# Altium integrated library AD Operational Amplifier.IntLib: 1114 symbols (part 2 of 13)
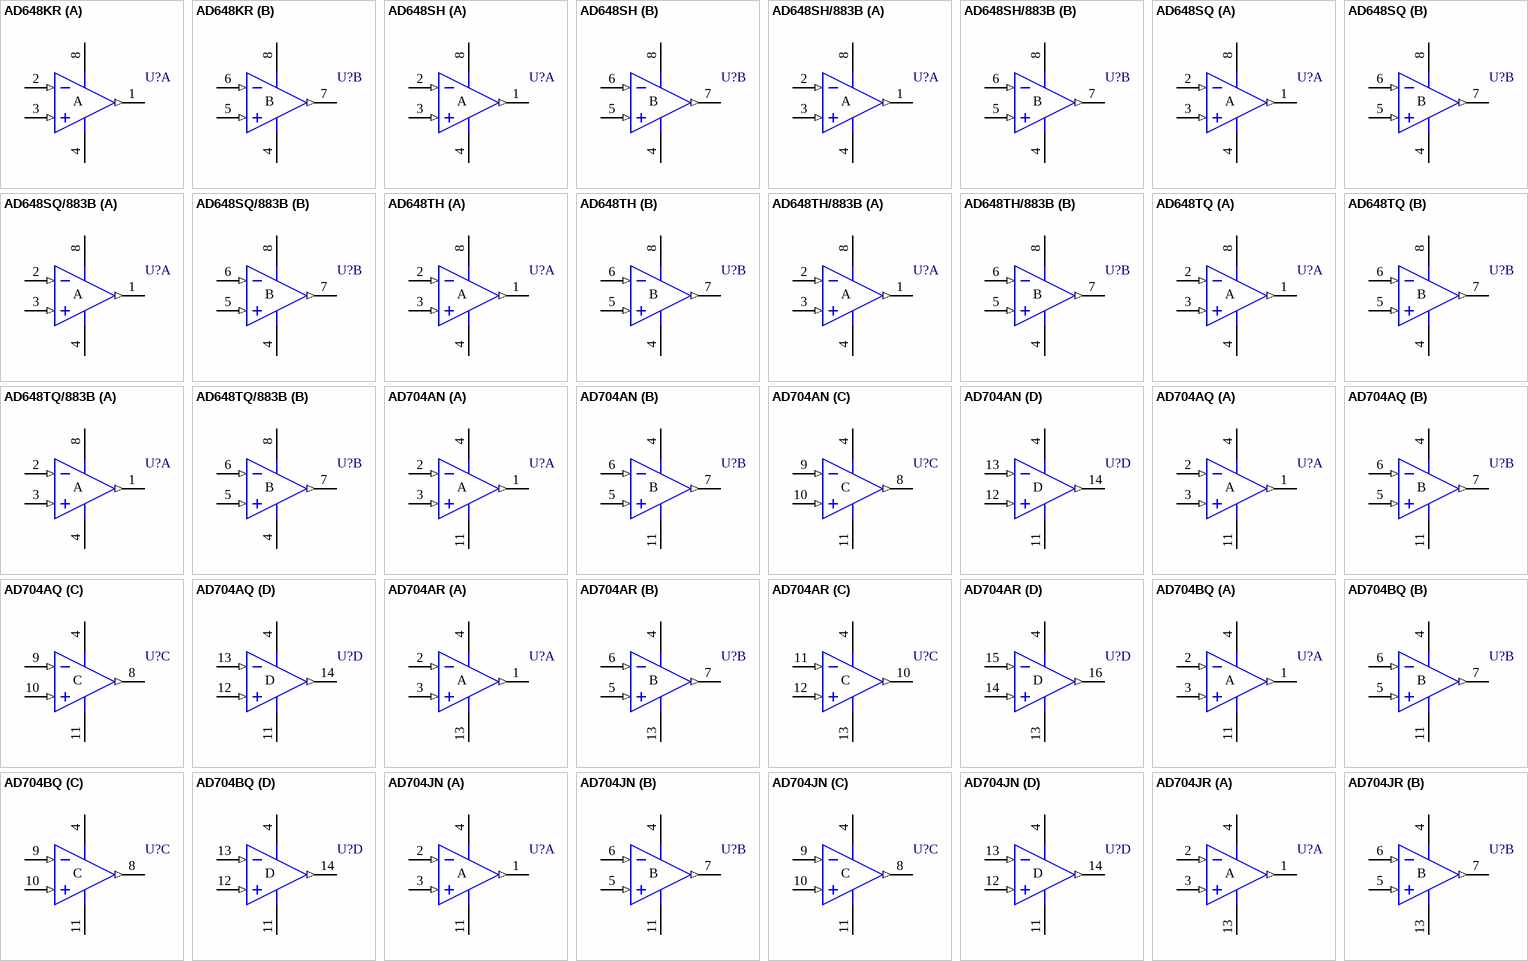
[diagram p47: symbols AD648KR to AD704JR]

## AD648SH
designator U?
Dual Precision, Low-Power BiFET Operational Amplifier; Package Information: Latest Revision: 1990; Note: Pin 4 connected to case.; Published: 8-Jun-2000; Revision: 17-Jul-2002: Re-released for DXP Platform.; Datasheet: Amplifier Reference Manual (1992); Package Reference: H-08A; Publisher: Altium Limited
footprint H-08A (Can; 8 Leads; Pin Circle Dia. 5.08 mm; Lead Dia. 0.53 mm (max))
pins on every part: 4 V- (power), 8 V+ (power)
part A pins: 1 OUT (out), 2 IN- (in), 3 IN+ (in)
part B pins: 5 IN+ (in), 6 IN- (in), 7 OUT (out)
part A text: A
part B text: B

## AD648SH/883B
designator U?
Dual Precision, Low-Power BiFET Op Amp; Package Information: Latest Revision: 1990; Note: Pin 4 connected to case.; Published: 8-Jun-2000; Revision: 17-Jul-2002: Re-released for DXP Platform.; Datasheet: Amplifier Reference Manual (1992); Package Reference: H-08A; Publisher: Altium Limited
footprint H-08A (Can; 8 Leads; Pin Circle Dia. 5.08 mm; Lead Dia. 0.53 mm (max))
pins on every part: 4 V- (power), 8 V+ (power)
part A pins: 1 OUT (out), 2 IN- (in), 3 IN+ (in)
part B pins: 5 IN+ (in), 6 IN- (in), 7 OUT (out)
part A text: A
part B text: B

## AD648SQ
designator U?
Dual Precision, Low-Power BiFET Operational Amplifier; Package Information: Latest Revision: 1998; Published: 8-Jun-2000; Revision: 17-Jul-2002: Re-released for DXP Platform.; Datasheet: Latest Revision: REV. C; Package Reference: Q-8; Publisher: Altium Limited
footprint Q-8 (DIP; 8 Leads; Row Spacing 7.62 mm; Pitch 2.54 mm)
pins on every part: 4 V- (power), 8 V+ (power)
part A pins: 1 OUT (out), 2 IN- (in), 3 IN+ (in)
part B pins: 5 IN+ (in), 6 IN- (in), 7 OUT (out)
part A text: A
part B text: B

## AD648SQ/883B
designator U?
Dual Precision, Low-Power BiFET Operational Amplifier; Package Information: Latest Revision: 1998; Published: 8-Jun-2000; Revision: 17-Jul-2002: Re-released for DXP Platform.; Datasheet: Latest Revision: REV. C; Package Reference: Q-8; Publisher: Altium Limited
footprint Q-8 (DIP; 8 Leads; Row Spacing 7.62 mm; Pitch 2.54 mm)
pins on every part: 4 V- (power), 8 V+ (power)
part A pins: 1 OUT (out), 2 IN- (in), 3 IN+ (in)
part B pins: 5 IN+ (in), 6 IN- (in), 7 OUT (out)
part A text: A
part B text: B

## AD648TH
designator U?
Dual Precision, Low-Power BiFET Operational Amplifier; Package Information: Latest Revision: 1990; Note: Pin 4 connected to case.; Published: 8-Jun-2000; Revision: 17-Jul-2002: Re-released for DXP Platform.; Datasheet: Amplifier Reference Manual (1992); Package Reference: H-08A; Publisher: Altium Limited
footprint H-08A (Can; 8 Leads; Pin Circle Dia. 5.08 mm; Lead Dia. 0.53 mm (max))
pins on every part: 4 V- (power), 8 V+ (power)
part A pins: 1 OUT (out), 2 IN- (in), 3 IN+ (in)
part B pins: 5 IN+ (in), 6 IN- (in), 7 OUT (out)
part A text: A
part B text: B

## AD648TH/883B
designator U?
Dual Precision, Low-Power BiFET Operational Amplifier; Package Information: Latest Revision: 1993; Note: Pin 4 connected to case.; Published: 8-Jun-2000; Revision: 17-Jul-2002: Re-released for DXP Platform.; Datasheet: Latest Revision: REV. C; Package Reference: H-08A_D; Publisher: Altium Limited
footprint H-08A_D (Can; 8 Leads; Pin Circle Dia. 5.08 mm; Lead Dia. 0.48 mm (max))
pins on every part: 4 V- (power), 8 V+ (power)
part A pins: 1 OUT (out), 2 IN- (in), 3 IN+ (in)
part B pins: 5 IN+ (in), 6 IN- (in), 7 OUT (out)
part A text: A
part B text: B

## AD648TQ
designator U?
Dual Precision, Low-Power BiFET Operational Amplifier; Package Information: Latest Revision: 1998; Published: 8-Jun-2000; Revision: 17-Jul-2002: Re-released for DXP Platform.; Datasheet: Amplifier Reference Manual (1992); Package Reference: Q-8; Publisher: Altium Limited
footprint Q-8 (DIP; 8 Leads; Row Spacing 7.62 mm; Pitch 2.54 mm)
pins on every part: 4 V- (power), 8 V+ (power)
part A pins: 1 OUT (out), 2 IN- (in), 3 IN+ (in)
part B pins: 5 IN+ (in), 6 IN- (in), 7 OUT (out)
part A text: A
part B text: B

## AD648TQ/883B
designator U?
Dual Precision, Low-Power BiFET Operational Amplifier; Package Information: Latest Revision: 1998; Published: 8-Jun-2000; Revision: 17-Jul-2002: Re-released for DXP Platform.; Datasheet: Latest Revision: REV. C; Package Reference: Q-8; Publisher: Altium Limited
footprint Q-8 (DIP; 8 Leads; Row Spacing 7.62 mm; Pitch 2.54 mm)
pins on every part: 4 V- (power), 8 V+ (power)
part A pins: 1 OUT (out), 2 IN- (in), 3 IN+ (in)
part B pins: 5 IN+ (in), 6 IN- (in), 7 OUT (out)
part A text: A
part B text: B

## AD704AN
designator U?
Quad Picoampere Input Current Bipolar Operational Amplifier; Revision 1: 10-Jul-2000: SIM Model Added.; Revision 2: 17-Jul-2002: Re-released for DXP Platform.; Package Information: Latest Revision: revB; Published: 8-Jun-2000; Datasheet: Latest Revision: REV. A; Package Reference: N-14_A; Publisher: Altium Limited
footprint N-14_A (DIP; 14 Leads; Row Spacing 7.62 mm; Pitch 2.54 mm)
simulation model AD704A (SUBCKT)
pins on every part: 4 V+ (power), 11 V- (power)
part A pins: 1 OUT (out), 2 IN- (in), 3 IN+ (in)
part B pins: 5 IN+ (in), 6 IN- (in), 7 OUT (out)
part C pins: 8 OUT (out), 9 IN- (in), 10 IN+ (in)
part D pins: 12 IN+ (in), 13 IN- (in), 14 OUT (out)
part A text: A
part B text: B
part C text: C
part D text: D

## AD704AQ
designator U?
Quad Picoampere Input Current Bipolar Operational Amplifier; Revision 1: 10-Jul-2000: SIM Model Added.; Revision 2: 17-Jul-2002: Re-released for DXP Platform.; Package Information: Latest Revision: revB; Published: 8-Jun-2000; Datasheet: Latest Revision: REV. A; Package Reference: Q-14; Publisher: Altium Limited
footprint Q-14 (DIP; 14 Leads; Row Spacing 7.62 mm; Pitch 2.54 mm)
simulation model AD704A (SUBCKT)
pins on every part: 4 V+ (power), 11 V- (power)
part A pins: 1 OUT (out), 2 IN- (in), 3 IN+ (in)
part B pins: 5 IN+ (in), 6 IN- (in), 7 OUT (out)
part C pins: 8 OUT (out), 9 IN- (in), 10 IN+ (in)
part D pins: 12 IN+ (in), 13 IN- (in), 14 OUT (out)
part A text: A
part B text: B
part C text: C
part D text: D

## AD704AR
designator U?
Quad Picoampere Input Current Bipolar Operational Amplifier; Revision 1: 10-Jul-2000: SIM Model Added.; Revision 2: 17-Jul-2002: Re-released for DXP Platform.; Revision 3: 21-May-2003: Pin 10 electrical type changed to 'Output'.; Package Information: Latest Revision: revA 1996; Note: Pins 8 and 9 are not connected; Code - JEDEC: MS-013-AA; Code - IPC: SO16W; Published: 8-Jun-2000; Datasheet: Latest Revision: REV. A; Package Reference: R-16; Publisher: Altium Limited
footprint R-16 (Small Outline; 16 Leads; Body Width 7.5 mm; Pitch 1.27 mm)
simulation model AD704A (SUBCKT)
pins on every part: 4 V+ (power), 13 V- (power)
part A pins: 1 OUT (out), 2 IN- (in), 3 IN+ (in)
part B pins: 5 IN+ (in), 6 IN- (in), 7 OUT (out)
part C pins: 10 OUT (out), 11 IN- (in), 12 IN+ (in)
part D pins: 14 IN+ (in), 15 IN- (in), 16 OUT (out)
part A text: A
part B text: B
part C text: C
part D text: D

## AD704BQ
designator U?
Quad Picoampere Input Current Bipolar Operational Amplifier; Revision 1: 10-Jul-2000: SIM Model Added.; Revision 2: 17-Jul-2002: Re-released for DXP Platform.; Package Information: Latest Revision: revB; Published: 8-Jun-2000; Datasheet: Latest Revision: REV. A; Package Reference: Q-14; Publisher: Altium Limited
footprint Q-14 (DIP; 14 Leads; Row Spacing 7.62 mm; Pitch 2.54 mm)
simulation model AD704B (SUBCKT)
pins on every part: 4 V+ (power), 11 V- (power)
part A pins: 1 OUT (out), 2 IN- (in), 3 IN+ (in)
part B pins: 5 IN+ (in), 6 IN- (in), 7 OUT (out)
part C pins: 8 OUT (out), 9 IN- (in), 10 IN+ (in)
part D pins: 12 IN+ (in), 13 IN- (in), 14 OUT (out)
part A text: A
part B text: B
part C text: C
part D text: D

## AD704JN
designator U?
Quad Picoampere Input Current Bipolar Operational Amplifier; Revision 1: 10-Jul-2000: SIM Model Added.; Revision 2: 17-Jul-2002: Re-released for DXP Platform.; Package Information: Latest Revision: revB; Published: 8-Jun-2000; Datasheet: Latest Revision: REV. A; Package Reference: N-14_A; Publisher: Altium Limited
footprint N-14_A (DIP; 14 Leads; Row Spacing 7.62 mm; Pitch 2.54 mm)
simulation model AD704J (SUBCKT)
pins on every part: 4 V+ (power), 11 V- (power)
part A pins: 1 OUT (out), 2 IN- (in), 3 IN+ (in)
part B pins: 5 IN+ (in), 6 IN- (in), 7 OUT (out)
part C pins: 8 OUT (out), 9 IN- (in), 10 IN+ (in)
part D pins: 12 IN+ (in), 13 IN- (in), 14 OUT (out)
part A text: A
part B text: B
part C text: C
part D text: D

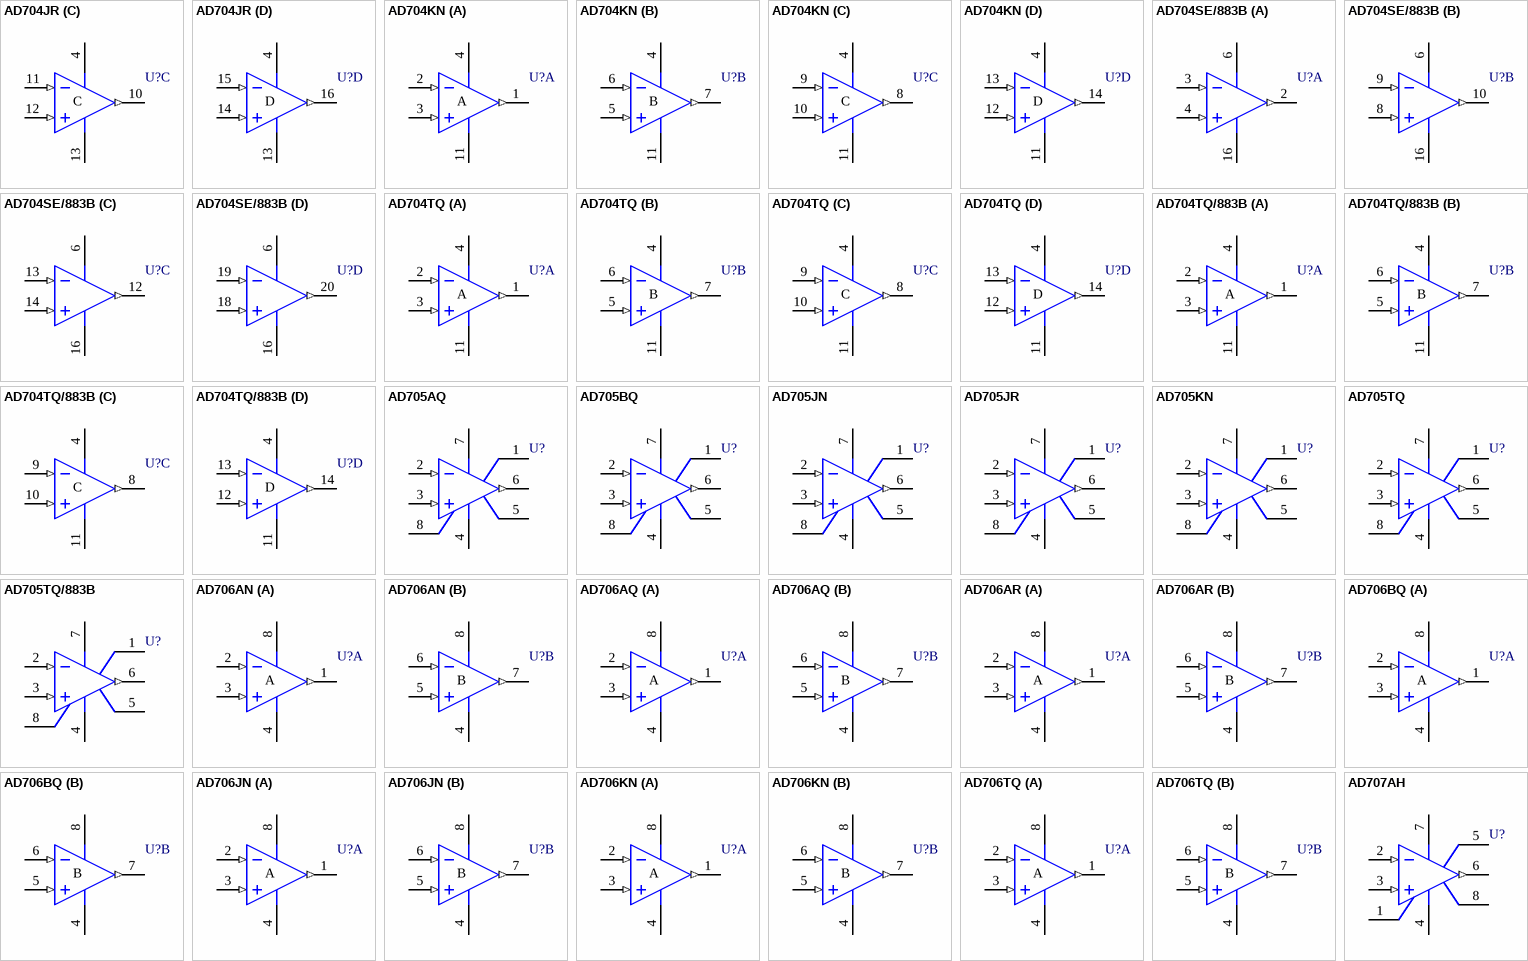
[diagram p4: symbols AD704JR to AD707AH]

## AD704JR
designator U?
Quad Picoampere Input Current Bipolar Operational Amplifier; Revision 1: 10-Jul-2000: SIM Model Added.; Revision 2: 17-Jul-2002: Re-released for DXP Platform.; Revision 3: 21-May-2003: Pin 10 electrical type changed to 'Output'.; Package Information: Latest Revision: revA 1996; Note: Pins 8 and 9 are not connected; Code - JEDEC: MS-013-AA; Code - IPC: SO16W; Published: 8-Jun-2000; Datasheet: Latest Revision: REV. A; Package Reference: R-16; Publisher: Altium Limited
footprint R-16 (Small Outline; 16 Leads; Body Width 7.5 mm; Pitch 1.27 mm)
simulation model AD704J (SUBCKT)
pins on every part: 4 V+ (power), 13 V- (power)
part A pins: 1 OUT (out), 2 IN- (in), 3 IN+ (in)
part B pins: 5 IN+ (in), 6 IN- (in), 7 OUT (out)
part C pins: 10 OUT (out), 11 IN- (in), 12 IN+ (in)
part D pins: 14 IN+ (in), 15 IN- (in), 16 OUT (out)
part A text: A
part B text: B
part C text: C
part D text: D

## AD704KN
designator U?
Quad Picoampere Input Current Bipolar Operational Amplifier; Revision 1: 10-Jul-2000: SIM Model Added.; Revision 2: 17-Jul-2002: Re-released for DXP Platform.; Package Information: Latest Revision: revB; Published: 8-Jun-2000; Datasheet: Latest Revision: REV. A; Package Reference: N-14_A; Publisher: Altium Limited
footprint N-14_A (DIP; 14 Leads; Row Spacing 7.62 mm; Pitch 2.54 mm)
simulation model AD704K (SUBCKT)
pins on every part: 4 V+ (power), 11 V- (power)
part A pins: 1 OUT (out), 2 IN- (in), 3 IN+ (in)
part B pins: 5 IN+ (in), 6 IN- (in), 7 OUT (out)
part C pins: 8 OUT (out), 9 IN- (in), 10 IN+ (in)
part D pins: 12 IN+ (in), 13 IN- (in), 14 OUT (out)
part A text: A
part B text: B
part C text: C
part D text: D

## AD704SE/883B
designator U?
Quad Picoampere Input Current Bipolar Operational Amplifier; Revision 1: 10-Jul-2000: SIM Model Added.; Revision 2: 17-Jul-2002: Re-released for DXP Platform.; Note: Pins 1, 5, 7, 11, 15 and 17 are not connected (NC) and are not drawn.; Published: 8-Jun-2000; Datasheet: Latest Revision: REV. A; Package Reference: E-20A; Publisher: Altium Limited
footprint E-20A (Leadless Chip Carrier; 20 Terminals; Body 8.9 x 8.9 mm)
simulation model AD704 (SUBCKT)
pins on every part: 6 V+ (power), 16 V- (power)
part A pins: 2 OUT (out), 3 IN- (in), 4 IN+ (in)
part B pins: 8 IN+ (in), 9 IN- (in), 10 OUT (out)
part C pins: 12 OUT (out), 13 IN- (in), 14 IN+ (in)
part D pins: 18 IN+ (in), 19 IN- (in), 20 OUT (out)

## AD704TQ
designator U?
Quad Picoampere Input Current Bipolar Operational Amplifier; Revision 1: 10-Jul-2000: SIM Model Added.; Revision 2: 17-Jul-2002: Re-released for DXP Platform.; Package Information: Latest Revision: revB; Published: 8-Jun-2000; Datasheet: Latest Revision: REV. A; Package Reference: Q-14; Publisher: Altium Limited
footprint Q-14 (DIP; 14 Leads; Row Spacing 7.62 mm; Pitch 2.54 mm)
simulation model AD704T (SUBCKT)
pins on every part: 4 V+ (power), 11 V- (power)
part A pins: 1 OUT (out), 2 IN- (in), 3 IN+ (in)
part B pins: 5 IN+ (in), 6 IN- (in), 7 OUT (out)
part C pins: 8 OUT (out), 9 IN- (in), 10 IN+ (in)
part D pins: 12 IN+ (in), 13 IN- (in), 14 OUT (out)
part A text: A
part B text: B
part C text: C
part D text: D

## AD704TQ/883B
designator U?
Quad Picoampere Input Current Bipolar Operational Amplifier; Revision 1: 10-Jul-2000: SIM Model Added.; Revision 2: 17-Jul-2002: Re-released for DXP Platform.; Package Information: Latest Revision: revB; Published: 8-Jun-2000; Datasheet: Latest Revision: REV. A; Package Reference: Q-14; Publisher: Altium Limited
footprint Q-14 (DIP; 14 Leads; Row Spacing 7.62 mm; Pitch 2.54 mm)
simulation model AD704T (SUBCKT)
pins on every part: 4 V+ (power), 11 V- (power)
part A pins: 1 OUT (out), 2 IN- (in), 3 IN+ (in)
part B pins: 5 IN+ (in), 6 IN- (in), 7 OUT (out)
part C pins: 8 OUT (out), 9 IN- (in), 10 IN+ (in)
part D pins: 12 IN+ (in), 13 IN- (in), 14 OUT (out)
part A text: A
part B text: B
part C text: C
part D text: D

## AD705AQ
designator U?
Picoampere Input Current Bipolar Operational Amplifier; Revision 1: 10-Jul-2000: SIM Model Added.; Revision 2: 17-Jul-2002: Re-released for DXP Platform.; Package Information: Latest Revision: 1998; Published: 8-Jun-2000; Datasheet: Latest Revision: REV. B; Package Reference: Q-8; Publisher: Altium Limited
footprint Q-8 (DIP; 8 Leads; Row Spacing 7.62 mm; Pitch 2.54 mm)
simulation model AD705A (SUBCKT)
pins: 1 OS NUL, 2 IN- (in), 3 IN+ (in), 4 V- (power), 5 C COMP, 6 OUT (out), 7 V+ (power), 8 OS NUL

## AD705BQ
designator U?
Picoampere Input Current Bipolar Operational Amplifier; Revision 1: 10-Jul-2000: SIM Model Added.; Revision 2: 17-Jul-2002: Re-released for DXP Platform.; Package Information: Latest Revision: 1998; Published: 8-Jun-2000; Datasheet: Latest Revision: REV. B; Package Reference: Q-8; Publisher: Altium Limited
footprint Q-8 (DIP; 8 Leads; Row Spacing 7.62 mm; Pitch 2.54 mm)
simulation model AD705B (SUBCKT)
pins: 1 OS NUL, 2 IN- (in), 3 IN+ (in), 4 V- (power), 5 C COMP, 6 OUT (out), 7 V+ (power), 8 OS NUL

## AD705JN
designator U?
Picoampere Input Current Bipolar Operational Amplifier; Revision 1: 10-Jul-2000: SIM Model Added.; Revision 2: 17-Jul-2002: Re-released for DXP Platform.; Package Information: Latest Revision: revA; Published: 8-Jun-2000; Datasheet: Latest Revision: REV. B; Package Reference: N-8; Publisher: Altium Limited
footprint N-8 (DIP; 8 Leads; Row Spacing 7.62 mm; Pitch 2.54 mm)
simulation model AD705J (SUBCKT)
pins: 1 OS NUL, 2 IN- (in), 3 IN+ (in), 4 V- (power), 5 C COMP, 6 OUT (out), 7 V+ (power), 8 OS NUL

## AD705JR
designator U?
Picoampere Input Current Bipolar Operational Amplifier; Revision 1: 10-Jul-2000: SIM Model Added.; Revision 2: 17-Jul-2002: Re-released for DXP Platform.; Package Information: Latest Revision: REV. B; Code - JEDEC: MS-012-AA; Code - IPC: SO8; Published: 8-Jun-2000; Datasheet: Latest Revision: REV. B; Package Reference: R-8; Publisher: Altium Limited
footprint R-8 (Small Outline; 8 Leads; Body Width 3.9 mm; Pitch 1.27 mm)
simulation model AD705J (SUBCKT)
pins: 1 OS NUL, 2 IN- (in), 3 IN+ (in), 4 V- (power), 5 C COMP, 6 OUT (out), 7 V+ (power), 8 OS NUL

## AD705KN
designator U?
Picoampere Input Current Bipolar Operational Amplifier; Revision 1: 10-Jul-2000: SIM Model Added.; Revision 2: 17-Jul-2002: Re-released for DXP Platform.; Package Information: Latest Revision: revA; Published: 8-Jun-2000; Datasheet: Latest Revision: REV. B; Package Reference: N-8; Publisher: Altium Limited
footprint N-8 (DIP; 8 Leads; Row Spacing 7.62 mm; Pitch 2.54 mm)
simulation model AD705K (SUBCKT)
pins: 1 OS NUL, 2 IN- (in), 3 IN+ (in), 4 V- (power), 5 C COMP, 6 OUT (out), 7 V+ (power), 8 OS NUL

## AD705TQ
designator U?
Picoampere Input Current Bipolar Operational Amplifier; Revision 1: 10-Jul-2000: SIM Model Added.; Revision 2: 17-Jul-2002: Re-released for DXP Platform.; Package Information: Latest Revision: 1998; Published: 8-Jun-2000; Datasheet: Latest Revision: REV. B; Package Reference: Q-8; Publisher: Altium Limited
footprint Q-8 (DIP; 8 Leads; Row Spacing 7.62 mm; Pitch 2.54 mm)
simulation model AD705T (SUBCKT)
pins: 1 OS NUL, 2 IN- (in), 3 IN+ (in), 4 V- (power), 5 C COMP, 6 OUT (out), 7 V+ (power), 8 OS NUL

## AD705TQ/883B
designator U?
Picoampere Input Current Bipolar Op Amp; Revision 1: 10-Jul-2000: SIM Model Added.; Revision 2: 17-Jul-2002: Re-released for DXP Platform.; Package Information: Latest Revision: 1998; Published: 8-Jun-2000; Datasheet: Latest Revision: REV. B; Package Reference: Q-8; Publisher: Altium Limited
footprint Q-8 (DIP; 8 Leads; Row Spacing 7.62 mm; Pitch 2.54 mm)
simulation model AD705T (SUBCKT)
pins: 1 OS NUL, 2 IN- (in), 3 IN+ (in), 4 V- (power), 5 C COMP, 6 OUT (out), 7 V+ (power), 8 OS NUL

## AD706AN
designator U?
Dual Picoampere Input Current Bipolar Operational Amplifier; Revision 1: 10-Jul-2000: SIM Model Added.; Revision 2: 17-Jul-2002: Re-released for DXP Platform.; Code - JEDEC: MO-001-AN; Published: 8-Jun-2000; Datasheet: Designer's Reference Manual CD (REV. C 1997); Package Reference: N-8_A; Publisher: Altium Limited
footprint N-8_A (DIP; 8 Leads; Row Spacing 7.62 mm; Pitch 2.54 mm)
simulation model AD706A (SUBCKT)
pins on every part: 4 V- (power), 8 V+ (power)
part A pins: 1 OUT (out), 2 IN- (in), 3 IN+ (in)
part B pins: 5 IN+ (in), 6 IN- (in), 7 OUT (out)
part A text: A
part B text: B

## AD706AQ
designator U?
Dual Picoampere Input Current Bipolar Operational Amplifier; Revision 1: 10-Jul-2000: SIM Model Added.; Revision 2: 17-Jul-2002: Re-released for DXP Platform.; Package Information: Latest Revision: 1998; Published: 8-Jun-2000; Datasheet: Designer's Reference Manual CD (REV. C 1997); Package Reference: Q-8; Publisher: Altium Limited
footprint Q-8 (DIP; 8 Leads; Row Spacing 7.62 mm; Pitch 2.54 mm)
simulation model AD706A (SUBCKT)
pins on every part: 4 V- (power), 8 V+ (power)
part A pins: 1 OUT (out), 2 IN- (in), 3 IN+ (in)
part B pins: 5 IN+ (in), 6 IN- (in), 7 OUT (out)
part A text: A
part B text: B

## AD706AR
designator U?
Dual Picoampere Input Current Bipolar Operational Amplifier; Revision 1: 10-Jul-2000: SIM Model Added.; Revision 2: 17-Jul-2002: Re-released for DXP Platform.; Code - JEDEC: MS-012-AA; Code - IPC: SO8; Published: 8-Jun-2000; Datasheet: Designer's Reference Manual CD (REV. C 1997); Package Reference: R-8; Publisher: Altium Limited
footprint R-8 (Small Outline; 8 Leads; Body Width 3.9 mm; Pitch 1.27 mm)
simulation model AD706A (SUBCKT)
pins on every part: 4 V- (power), 8 V+ (power)
part A pins: 1 OUT (out), 2 IN- (in), 3 IN+ (in)
part B pins: 5 IN+ (in), 6 IN- (in), 7 OUT (out)
part A text: A
part B text: B

## AD706BQ
designator U?
Dual Picoampere Input Current Bipolar Operational Amplifier; Revision 1: 10-Jul-2000: SIM Model Added.; Revision 2: 17-Jul-2002: Re-released for DXP Platform.; Package Information: Latest Revision: 1998; Published: 8-Jun-2000; Datasheet: Designer's Reference Manual CD (REV. C 1997); Package Reference: Q-8; Publisher: Altium Limited
footprint Q-8 (DIP; 8 Leads; Row Spacing 7.62 mm; Pitch 2.54 mm)
simulation model AD706B (SUBCKT)
pins on every part: 4 V- (power), 8 V+ (power)
part A pins: 1 OUT (out), 2 IN- (in), 3 IN+ (in)
part B pins: 5 IN+ (in), 6 IN- (in), 7 OUT (out)
part A text: A
part B text: B

## AD706JN
designator U?
Dual Picoampere Input Current Bipolar Operational Amplifier; Revision 1: 10-Jul-2000: SIM Model Added.; Revision 2: 17-Jul-2002: Re-released for DXP Platform.; Code - JEDEC: MO-001-AN; Published: 8-Jun-2000; Datasheet: Designer's Reference Manual CD (REV. C 1997); Package Reference: N-8_A; Publisher: Altium Limited
footprint N-8_A (DIP; 8 Leads; Row Spacing 7.62 mm; Pitch 2.54 mm)
simulation model AD706J (SUBCKT)
pins on every part: 4 V- (power), 8 V+ (power)
part A pins: 1 OUT (out), 2 IN- (in), 3 IN+ (in)
part B pins: 5 IN+ (in), 6 IN- (in), 7 OUT (out)
part A text: A
part B text: B

## AD706KN
designator U?
Dual Picoampere Input Current Bipolar Operational Amplifier; Revision 1: 10-Jul-2000: SIM Model Added.; Revision 2: 17-Jul-2002: Re-released for DXP Platform.; Code - JEDEC: MO-001-AN; Published: 8-Jun-2000; Datasheet: Designer's Reference Manual CD (REV. C 1997); Package Reference: N-8_A; Publisher: Altium Limited
footprint N-8_A (DIP; 8 Leads; Row Spacing 7.62 mm; Pitch 2.54 mm)
simulation model AD706K (SUBCKT)
pins on every part: 4 V- (power), 8 V+ (power)
part A pins: 1 OUT (out), 2 IN- (in), 3 IN+ (in)
part B pins: 5 IN+ (in), 6 IN- (in), 7 OUT (out)
part A text: A
part B text: B

## AD706TQ
designator U?
Dual Picoampere Input Current Bipolar Operational Amplifier; Revision 1: 10-Jul-2000: SIM Model Added.; Revision 2: 17-Jul-2002: Re-released for DXP Platform.; Package Information: Latest Revision: 1998; Published: 8-Jun-2000; Datasheet: Amplifier Reference Manual (1992); Package Reference: Q-8; Publisher: Altium Limited
footprint Q-8 (DIP; 8 Leads; Row Spacing 7.62 mm; Pitch 2.54 mm)
simulation model AD706T (SUBCKT)
pins on every part: 4 V- (power), 8 V+ (power)
part A pins: 1 OUT (out), 2 IN- (in), 3 IN+ (in)
part B pins: 5 IN+ (in), 6 IN- (in), 7 OUT (out)
part A text: A
part B text: B

## AD707AH
designator U?
Ultra-Low Drift Operational Amplifier; Package Information: Latest Revision: 1990; Note: Pin 4 connected to case; Pin 5 is not connected.; Published: 8-Jun-2000; Revision: 17-Jul-2002: Re-released for DXP Platform.; Datasheet: Latest Revision: REV. B 1995; Package Reference: H-08A; Publisher: Altium Limited
footprint H-08A (Can; 8 Leads; Pin Circle Dia. 5.08 mm; Lead Dia. 0.53 mm (max))
pins: 1 OS NULL, 2 IN- (in), 3 IN+ (in), 4 V- (power), 5 NC, 6 OUT (out), 7 V+ (power), 8 OS NULL

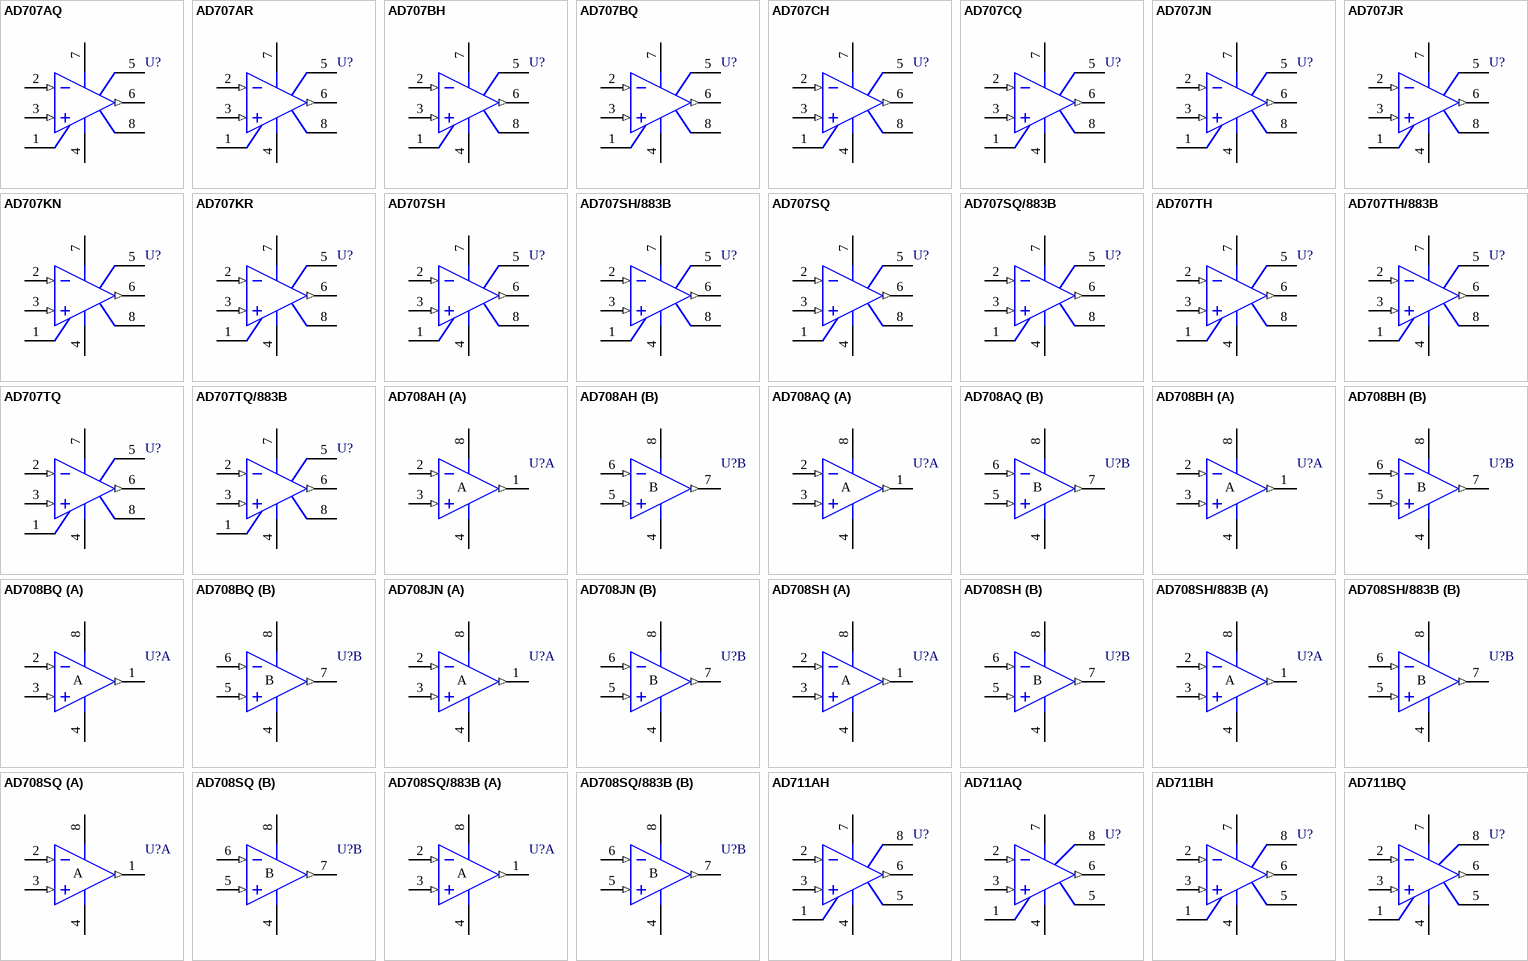
[diagram p5: symbols AD707AQ to AD711BQ]

## AD707AQ
designator U?
Ultra-Low Drift Operational Amplifier; Package Information: Latest Revision: 1998; Note: Pin 5 is not connected.; Published: 8-Jun-2000; Revision: 17-Jul-2002: Re-released for DXP Platform.; Datasheet: Latest Revision: REV. B 1995; Package Reference: Q-8; Publisher: Altium Limited
footprint Q-8 (DIP; 8 Leads; Row Spacing 7.62 mm; Pitch 2.54 mm)
pins: 1 NULL1, 2 IN- (in), 3 IN+ (in), 4 V- (power), 5 NC, 6 OUT (out), 7 V+ (power), 8 NULL2

## AD707AR
designator U?
Ultra-Low Drift Operational Amplifier; Package Information: Latest Revision: revA; Note: Pin 5 is not connected.; Code - JEDEC: MS-012-AA; Code - IPC: SO8; Published: 8-Jun-2000; Revision: 17-Jul-2002: Re-released for DXP Platform.; Datasheet: Latest Revision: REV. B 1995; Package Reference: SO-8; Publisher: Altium Limited
footprint SO-8 (Small Outline; 8 Leads; Body Width 3.9 mm; Pitch 1.27 mm)
pins: 1 NULL1, 2 IN- (in), 3 IN+ (in), 4 V- (power), 5 NC, 6 OUT (out), 7 V+ (power), 8 NULL2

## AD707BH
designator U?
Ultra-Low Drift Operational Amplifier; Package Information: Latest Revision: 1990; Note: Pin 4 connected to case; Pin 5 is not connected.; Published: 8-Jun-2000; Revision: 17-Jul-2002: Re-released for DXP Platform.; Datasheet: Amplifier Reference Manual (1992); Package Reference: H-08A; Publisher: Altium Limited
footprint H-08A (Can; 8 Leads; Pin Circle Dia. 5.08 mm; Lead Dia. 0.53 mm (max))
pins: 1 OS NULL, 2 IN- (in), 3 IN+ (in), 4 V- (power), 5 NC, 6 OUT (out), 7 V+ (power), 8 OS NULL

## AD707BQ
designator U?
Ultra-Low Drift Operational Amplifier; Package Information: Latest Revision: 1998; Note: Pin 5 is not connected.; Published: 8-Jun-2000; Revision: 17-Jul-2002: Re-released for DXP Platform.; Datasheet: Latest Revision: REV. B 1995; Package Reference: Q-8; Publisher: Altium Limited
footprint Q-8 (DIP; 8 Leads; Row Spacing 7.62 mm; Pitch 2.54 mm)
pins: 1 NULL1, 2 IN- (in), 3 IN+ (in), 4 V- (power), 5 NC, 6 OUT (out), 7 V+ (power), 8 NULL2

## AD707CH
designator U?
Ultra-Low Drift Operational Amplifier; Package Information: Latest Revision: 1990; Note: Pin 4 connected to case; Pin 5 is not connected.; Published: 8-Jun-2000; Revision: 17-Jul-2002: Re-released for DXP Platform.; Datasheet: Amplifier Reference Manual (1992); Package Reference: H-08A; Publisher: Altium Limited
footprint H-08A (Can; 8 Leads; Pin Circle Dia. 5.08 mm; Lead Dia. 0.53 mm (max))
pins: 1 OS NULL, 2 IN- (in), 3 IN+ (in), 4 V- (power), 5 NC, 6 OUT (out), 7 V+ (power), 8 OS NULL

## AD707CQ
designator U?
Ultra-Low Drift Operational Amplifier; Package Information: Latest Revision: 1998; Note: Pin 4 connected to case; Pin 5 is not connected.; Published: 8-Jun-2000; Revision: 17-Jul-2002: Re-released for DXP Platform.; Datasheet: Amplifier Reference Manual (1992); Package Reference: Q-8; Publisher: Altium Limited
footprint Q-8 (DIP; 8 Leads; Row Spacing 7.62 mm; Pitch 2.54 mm)
pins: 1 NULL1, 2 IN- (in), 3 IN+ (in), 4 V- (power), 5 NC, 6 OUT (out), 7 V+ (power), 8 NULL2

## AD707JN
designator U?
Ultra-Low Drift Operational Amplifier; Note: Pin 5 is not connected.; Code - JEDEC: MO-001-AN; Published: 8-Jun-2000; Revision: 17-Jul-2002: Re-released for DXP Platform.; Datasheet: Latest Revision: REV. B 1995; Package Reference: N-8_A; Publisher: Altium Limited
footprint N-8_A (DIP; 8 Leads; Row Spacing 7.62 mm; Pitch 2.54 mm)
pins: 1 NULL1, 2 IN- (in), 3 IN+ (in), 4 V- (power), 5 NC, 6 OUT (out), 7 V+ (power), 8 NULL2

## AD707JR
designator U?
Ultra-Low Drift Operational Amplifier; Package Information: Latest Revision: revA; Note: Pin 5 is not connected.; Code - JEDEC: MS-012-AA; Code - IPC: SO8; Published: 8-Jun-2000; Revision: 17-Jul-2002: Re-released for DXP Platform.; Datasheet: Latest Revision: REV. B 1995; Package Reference: SO-8; Publisher: Altium Limited
footprint SO-8 (Small Outline; 8 Leads; Body Width 3.9 mm; Pitch 1.27 mm)
pins: 1 NULL1, 2 IN- (in), 3 IN+ (in), 4 V- (power), 5 NC, 6 OUT (out), 7 V+ (power), 8 NULL2

## AD707KN
designator U?
Ultra-Low Drift Operational Amplifier; Note: Pin 5 is not connected.; Code - JEDEC: MO-001-AN; Published: 8-Jun-2000; Revision: 17-Jul-2002: Re-released for DXP Platform.; Datasheet: Latest Revision: REV. B 1995; Package Reference: N-8_A; Publisher: Altium Limited
footprint N-8_A (DIP; 8 Leads; Row Spacing 7.62 mm; Pitch 2.54 mm)
pins: 1 NULL1, 2 IN- (in), 3 IN+ (in), 4 V- (power), 5 NC, 6 OUT (out), 7 V+ (power), 8 NULL2

## AD707KR
designator U?
Ultra-Low Drift Operational Amplifier; Package Information: Latest Revision: revA; Note: Pin 5 is not connected.; Code - JEDEC: MS-012-AA; Code - IPC: SO8; Published: 8-Jun-2000; Revision: 17-Jul-2002: Re-released for DXP Platform.; Datasheet: Latest Revision: REV. B 1995; Package Reference: SO-8; Publisher: Altium Limited
footprint SO-8 (Small Outline; 8 Leads; Body Width 3.9 mm; Pitch 1.27 mm)
pins: 1 NULL1, 2 IN- (in), 3 IN+ (in), 4 V- (power), 5 NC, 6 OUT (out), 7 V+ (power), 8 NULL2

## AD707SH
designator U?
Ultra-Low Drift Operational Amplifier; Package Information: Latest Revision: 1990; Note: Pin 4 connected to case; Pin 5 is not connected.; Published: 8-Jun-2000; Revision: 17-Jul-2002: Re-released for DXP Platform.; Datasheet: Amplifier Reference Manual (1992); Package Reference: H-08A; Publisher: Altium Limited
footprint H-08A (Can; 8 Leads; Pin Circle Dia. 5.08 mm; Lead Dia. 0.53 mm (max))
pins: 1 OS NULL, 2 IN- (in), 3 IN+ (in), 4 V- (power), 5 NC, 6 OUT (out), 7 V+ (power), 8 OS NULL

## AD707SH/883B
designator U?
Ultra-Low Drift Operational Amplifier; Package Information: Latest Revision: 1990; Note: Pin 4 connected to case; Pin 5 is not connected.; Published: 8-Jun-2000; Revision: 17-Jul-2002: Re-released for DXP Platform.; Datasheet: Amplifier Reference Manual (1992); Package Reference: H-08A; Publisher: Altium Limited
footprint H-08A (Can; 8 Leads; Pin Circle Dia. 5.08 mm; Lead Dia. 0.53 mm (max))
pins: 1 OS NULL, 2 IN- (in), 3 IN+ (in), 4 V- (power), 5 NC, 6 OUT (out), 7 V+ (power), 8 OS NULL

## AD707SQ
designator U?
Ultra-Low Drift Operational Amplifier; Package Information: Latest Revision: 1998; Note: Pin 4 connected to case; Pin 5 is not connected.; Published: 8-Jun-2000; Revision: 17-Jul-2002: Re-released for DXP Platform.; Datasheet: Amplifier Reference Manual (1992); Package Reference: Q-8; Publisher: Altium Limited
footprint Q-8 (DIP; 8 Leads; Row Spacing 7.62 mm; Pitch 2.54 mm)
pins: 1 NULL1, 2 IN- (in), 3 IN+ (in), 4 V- (power), 5 NC, 6 OUT (out), 7 V+ (power), 8 NULL2

## AD707SQ/883B
designator U?
Ultra-Low Drift Operational Amplifier; Package Information: Latest Revision: 1998; Note: Pin 4 connected to case; Pin 5 is not connected.; Published: 8-Jun-2000; Revision: 17-Jul-2002: Re-released for DXP Platform.; Datasheet: Amplifier Reference Manual (1992); Package Reference: Q-8; Publisher: Altium Limited
footprint Q-8 (DIP; 8 Leads; Row Spacing 7.62 mm; Pitch 2.54 mm)
pins: 1 NULL1, 2 IN- (in), 3 IN+ (in), 4 V- (power), 5 NC, 6 OUT (out), 7 V+ (power), 8 NULL2

## AD707TH
designator U?
Ultra-Low Drift Operational Amplifier; Package Information: Latest Revision: 1990; Note: Pin 4 connected to case; Pin 5 is not connected.; Published: 8-Jun-2000; Revision: 17-Jul-2002: Re-released for DXP Platform.; Datasheet: Amplifier Reference Manual (1992); Package Reference: H-08A; Publisher: Altium Limited
footprint H-08A (Can; 8 Leads; Pin Circle Dia. 5.08 mm; Lead Dia. 0.53 mm (max))
pins: 1 OS NULL, 2 IN- (in), 3 IN+ (in), 4 V- (power), 5 NC, 6 OUT (out), 7 V+ (power), 8 OS NULL

## AD707TH/883B
designator U?
Ultra-Low Drift Operational Amplifier; Package Information: Latest Revision: 1990; Note: Pin 4 connected to case; Pin 5 is not connected.; Published: 8-Jun-2000; Revision: 17-Jul-2002: Re-released for DXP Platform.; Datasheet: Amplifier Reference Manual (1992); Package Reference: H-08A; Publisher: Altium Limited
footprint H-08A (Can; 8 Leads; Pin Circle Dia. 5.08 mm; Lead Dia. 0.53 mm (max))
pins: 1 OS NULL, 2 IN- (in), 3 IN+ (in), 4 V- (power), 5 NC, 6 OUT (out), 7 V+ (power), 8 OS NULL

## AD707TQ
designator U?
Ultra-Low Drift Operational Amplifier; Package Information: Latest Revision: 1998; Note: Pin 4 connected to case; Pin 5 is not connected.; Published: 8-Jun-2000; Revision: 17-Jul-2002: Re-released for DXP Platform.; Datasheet: Amplifier Reference Manual (1992); Package Reference: Q-8; Publisher: Altium Limited
footprint Q-8 (DIP; 8 Leads; Row Spacing 7.62 mm; Pitch 2.54 mm)
pins: 1 NULL1, 2 IN- (in), 3 IN+ (in), 4 V- (power), 5 NC, 6 OUT (out), 7 V+ (power), 8 NULL2

## AD707TQ/883B
designator U?
Ultra-Low Drift Operational Amplifier; Package Information: Latest Revision: 1998; Note: Pin 4 connected to case; Pin 5 is not connected.; Published: 8-Jun-2000; Revision: 17-Jul-2002: Re-released for DXP Platform.; Datasheet: Amplifier Reference Manual (1992); Package Reference: Q-8; Publisher: Altium Limited
footprint Q-8 (DIP; 8 Leads; Row Spacing 7.62 mm; Pitch 2.54 mm)
pins: 1 NULL1, 2 IN- (in), 3 IN+ (in), 4 V- (power), 5 NC, 6 OUT (out), 7 V+ (power), 8 NULL2

## AD708AH
designator U?
Ultra-Low Offset Voltage Dual Operational Amplifier; Package Information: Latest Revision: 1993; Note: Pin 4 connected to case.; Published: 8-Jun-2000; Revision: 17-Jul-2002: Re-released for DXP Platform.; Datasheet: Latest Revision: REV. B; Package Reference: H-08A_D; Publisher: Altium Limited
footprint H-08A_D (Can; 8 Leads; Pin Circle Dia. 5.08 mm; Lead Dia. 0.48 mm (max))
pins on every part: 4 V- (power), 8 V+ (power)
part A pins: 1 OUT (out), 2 IN- (in), 3 IN+ (in)
part B pins: 5 IN+ (in), 6 IN- (in), 7 OUT (out)
part A text: A
part B text: B

## AD708AQ
designator U?
Ultra-Low Offset Voltage Dual Operational Amplifier; Package Information: Latest Revision: 1998; Published: 8-Jun-2000; Revision: 17-Jul-2002: Re-released for DXP Platform.; Datasheet: Latest Revision: REV. B; Package Reference: Q-8; Publisher: Altium Limited
footprint Q-8 (DIP; 8 Leads; Row Spacing 7.62 mm; Pitch 2.54 mm)
pins on every part: 4 V- (power), 8 V+ (power)
part A pins: 1 OUT (out), 2 IN- (in), 3 IN+ (in)
part B pins: 5 IN+ (in), 6 IN- (in), 7 OUT (out)
part A text: A
part B text: B

## AD708BH
designator U?
Ultra-Low Offset Voltage Dual Operational Amplifier; Package Information: Latest Revision: 1993; Note: Pin 4 connected to case.; Published: 8-Jun-2000; Revision: 17-Jul-2002: Re-released for DXP Platform.; Datasheet: Latest Revision: REV. B; Package Reference: H-08A_D; Publisher: Altium Limited
footprint H-08A_D (Can; 8 Leads; Pin Circle Dia. 5.08 mm; Lead Dia. 0.48 mm (max))
pins on every part: 4 V- (power), 8 V+ (power)
part A pins: 1 OUT (out), 2 IN- (in), 3 IN+ (in)
part B pins: 5 IN+ (in), 6 IN- (in), 7 OUT (out)
part A text: A
part B text: B

## AD708BQ
designator U?
Ultra-Low Offset Voltage Dual Operational Amplifier; Package Information: Latest Revision: 1998; Published: 8-Jun-2000; Revision: 17-Jul-2002: Re-released for DXP Platform.; Datasheet: Latest Revision: REV. B; Package Reference: Q-8; Publisher: Altium Limited
footprint Q-8 (DIP; 8 Leads; Row Spacing 7.62 mm; Pitch 2.54 mm)
pins on every part: 4 V- (power), 8 V+ (power)
part A pins: 1 OUT (out), 2 IN- (in), 3 IN+ (in)
part B pins: 5 IN+ (in), 6 IN- (in), 7 OUT (out)
part A text: A
part B text: B

## AD708JN
designator U?
Ultra-Low Offset Voltage Dual Operational Amplifier; Package Information: Latest Revision: revA; Published: 8-Jun-2000; Revision: 17-Jul-2002: Re-released for DXP Platform.; Datasheet: Latest Revision: REV. B; Package Reference: N-8; Publisher: Altium Limited
footprint N-8 (DIP; 8 Leads; Row Spacing 7.62 mm; Pitch 2.54 mm)
pins on every part: 4 V- (power), 8 V+ (power)
part A pins: 1 OUT (out), 2 IN- (in), 3 IN+ (in)
part B pins: 5 IN+ (in), 6 IN- (in), 7 OUT (out)
part A text: A
part B text: B

## AD708SH
designator U?
Ultra-Low Offset Voltage Dual Operational Amplifier; Package Information: Latest Revision: 1993; Note: Pin 4 connected to case.; Published: 8-Jun-2000; Revision: 17-Jul-2002: Re-released for DXP Platform.; Datasheet: Latest Revision: REV. B; Package Reference: H-08A_D; Publisher: Altium Limited
footprint H-08A_D (Can; 8 Leads; Pin Circle Dia. 5.08 mm; Lead Dia. 0.48 mm (max))
pins on every part: 4 V- (power), 8 V+ (power)
part A pins: 1 OUT (out), 2 IN- (in), 3 IN+ (in)
part B pins: 5 IN+ (in), 6 IN- (in), 7 OUT (out)
part A text: A
part B text: B

## AD708SH/883B
designator U?
Ultra-Low Offset Voltage Dual Operational Amplifier; Package Information: Latest Revision: 1993; Note: Pin 4 connected to case.; Published: 8-Jun-2000; Revision: 17-Jul-2002: Re-released for DXP Platform.; Datasheet: Latest Revision: REV. B; Package Reference: H-08A_D; Publisher: Altium Limited
footprint H-08A_D (Can; 8 Leads; Pin Circle Dia. 5.08 mm; Lead Dia. 0.48 mm (max))
pins on every part: 4 V- (power), 8 V+ (power)
part A pins: 1 OUT (out), 2 IN- (in), 3 IN+ (in)
part B pins: 5 IN+ (in), 6 IN- (in), 7 OUT (out)
part A text: A
part B text: B

## AD708SQ
designator U?
Ultra-Low Offset Voltage Dual Operational Amplifier; Package Information: Latest Revision: 1998; Published: 8-Jun-2000; Revision: 17-Jul-2002: Re-released for DXP Platform.; Datasheet: Latest Revision: REV. B; Package Reference: Q-8; Publisher: Altium Limited
footprint Q-8 (DIP; 8 Leads; Row Spacing 7.62 mm; Pitch 2.54 mm)
pins on every part: 4 V- (power), 8 V+ (power)
part A pins: 1 OUT (out), 2 IN- (in), 3 IN+ (in)
part B pins: 5 IN+ (in), 6 IN- (in), 7 OUT (out)
part A text: A
part B text: B

## AD708SQ/883B
designator U?
Ultra-Low Offset Voltage Dual Op Amp; Package Information: Latest Revision: 1998; Published: 8-Jun-2000; Revision: 17-Jul-2002: Re-released for DXP Platform.; Datasheet: Latest Revision: REV. B; Package Reference: Q-8; Publisher: Altium Limited
footprint Q-8 (DIP; 8 Leads; Row Spacing 7.62 mm; Pitch 2.54 mm)
pins on every part: 4 V- (power), 8 V+ (power)
part A pins: 1 OUT (out), 2 IN- (in), 3 IN+ (in)
part B pins: 5 IN+ (in), 6 IN- (in), 7 OUT (out)
part A text: A
part B text: B

## AD711AH
designator U?
Precision Low Cost High-Speed BiFET Operational Amplifier; Revision 1: 10-Jul-2000: SIM Model Added.; Revision 2: 17-Jul-2002: Re-released for DXP Platform.; Package Information: Latest Revision: 1993; Note: Pin 4 connected to case; Pin 8 is not connected.; Published: 8-Jun-2000; Datasheet: Latest Revision: REV. A; Package Reference: H-08A_D; Publisher: Altium Limited
footprint H-08A_D (Can; 8 Leads; Pin Circle Dia. 5.08 mm; Lead Dia. 0.48 mm (max))
simulation model AD711A (SUBCKT)
pins: 1 OS NULL, 2 IN- (in), 3 IN+ (in), 4 V- (power), 5 OS NULL, 6 OUT (out), 7 V+ (power), 8 NC

## AD711AQ
designator U?
Precision Low Cost High-Speed BiFET Operational Amplifier; Revision 1: 10-Jul-2000: SIM Model Added.; Revision 2: 17-Jul-2002: Re-released for DXP Platform.; Package Information: Latest Revision: 1998; Note: Pin 8 is not connected.; Published: 8-Jun-2000; Datasheet: Latest Revision: REV. A; Package Reference: Q-8; Publisher: Altium Limited
footprint Q-8 (DIP; 8 Leads; Row Spacing 7.62 mm; Pitch 2.54 mm)
simulation model AD711A (SUBCKT)
pins: 1 OS NULL, 2 IN- (in), 3 IN+ (in), 4 V- (power), 5 OS NULL, 6 OUT (out), 7 V+ (power), 8 NC

## AD711BH
designator U?
Precision Low Cost High-Speed BiFET Operational Amplifier; Revision 1: 10-Jul-2000: SIM Model Added.; Revision 2: 17-Jul-2002: Re-released for DXP Platform.; Package Information: Latest Revision: 1993; Note: Pin 4 connected to case; Pin 8 is not connected.; Published: 8-Jun-2000; Datasheet: Latest Revision: REV. A; Package Reference: H-08A_D; Publisher: Altium Limited
footprint H-08A_D (Can; 8 Leads; Pin Circle Dia. 5.08 mm; Lead Dia. 0.48 mm (max))
simulation model AD711B (SUBCKT)
pins: 1 OS NULL, 2 IN- (in), 3 IN+ (in), 4 V- (power), 5 OS NULL, 6 OUT (out), 7 V+ (power), 8 NC

## AD711BQ
designator U?
Precision Low Cost High-Speed BiFET Operational Amplifier; Revision 1: 10-Jul-2000: SIM Model Added.; Revision 2: 17-Jul-2002: Re-released for DXP Platform.; Package Information: Latest Revision: 1998; Note: Pin 8 is not connected.; Published: 8-Jun-2000; Datasheet: Latest Revision: REV. A; Package Reference: Q-8; Publisher: Altium Limited
footprint Q-8 (DIP; 8 Leads; Row Spacing 7.62 mm; Pitch 2.54 mm)
simulation model AD711B (SUBCKT)
pins: 1 OS NULL, 2 IN- (in), 3 IN+ (in), 4 V- (power), 5 OS NULL, 6 OUT (out), 7 V+ (power), 8 NC

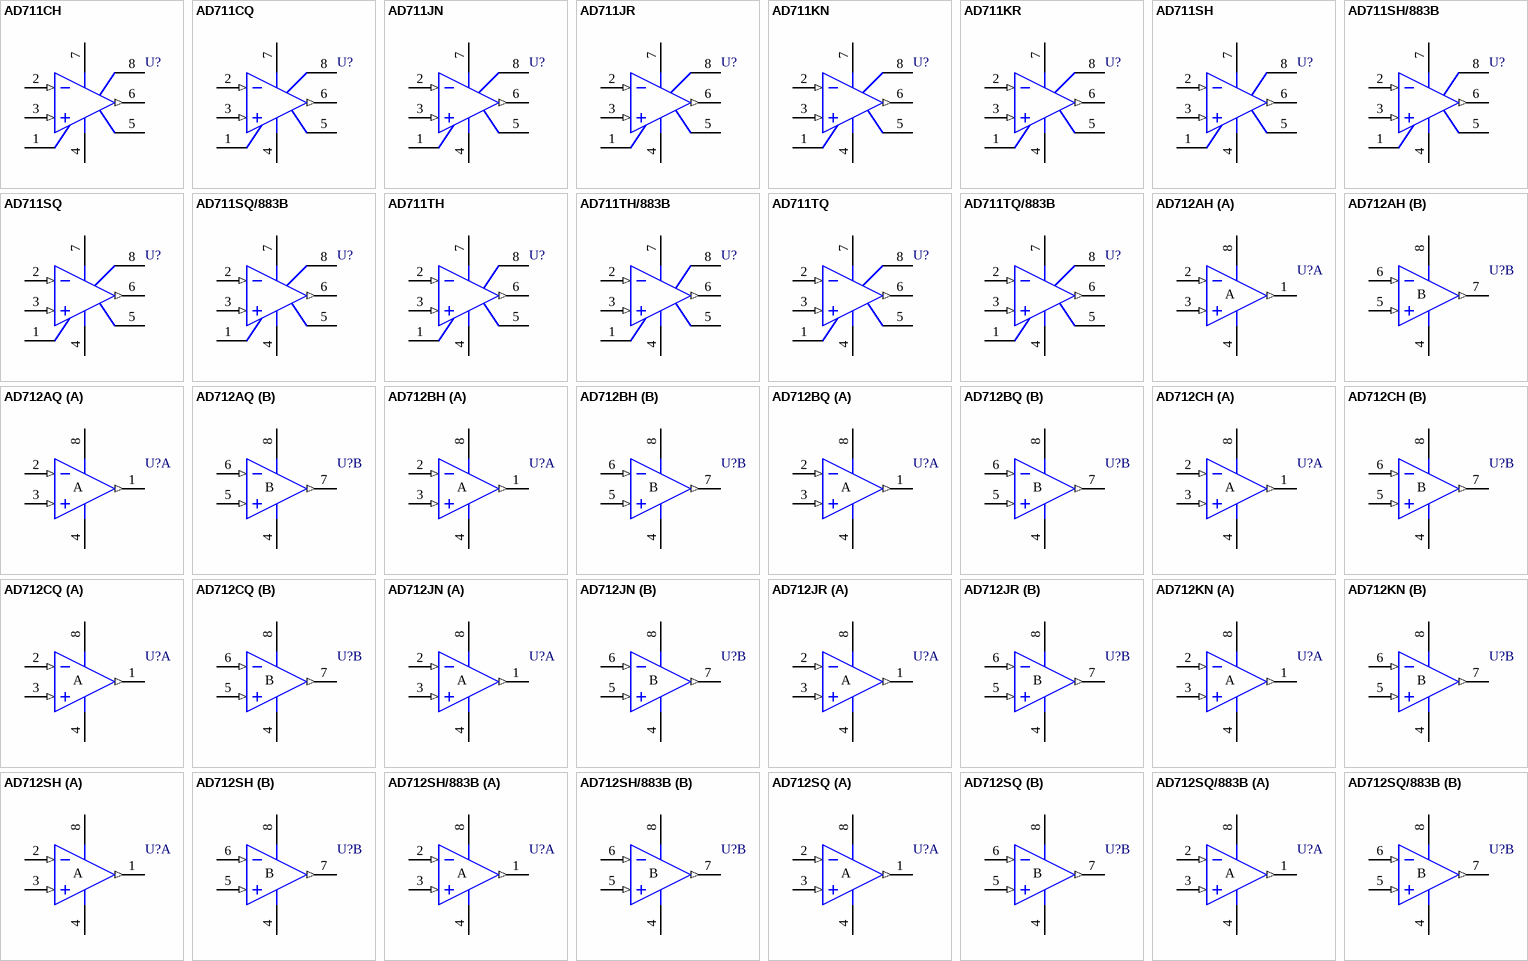
[diagram p6: symbols AD711CH to AD712SQ/883B]

## AD711CH
designator U?
Precision Low Cost High-Speed BiFET Operational Amplifier; Revision 1: 10-Jul-2000: SIM Model Added.; Revision 2: 17-Jul-2002: Re-released for DXP Platform.; Package Information: Latest Revision: 1993; Note: Pin 4 connected to case; Pin 8 is not connected.; Published: 8-Jun-2000; Datasheet: Latest Revision: REV. A; Package Reference: H-08A_D; Publisher: Altium Limited
footprint H-08A_D (Can; 8 Leads; Pin Circle Dia. 5.08 mm; Lead Dia. 0.48 mm (max))
simulation model AD711C (SUBCKT)
pins: 1 OS NULL, 2 IN- (in), 3 IN+ (in), 4 V- (power), 5 OS NULL, 6 OUT (out), 7 V+ (power), 8 NC

## AD711CQ
designator U?
Precision Low Cost High-Speed BiFET Operational Amplifier; Revision 1: 10-Jul-2000: SIM Model Added.; Revision 2: 17-Jul-2002: Re-released for DXP Platform.; Package Information: Latest Revision: 1998; Note: Pin 8 is not connected.; Published: 8-Jun-2000; Datasheet: Latest Revision: REV. A; Package Reference: Q-8; Publisher: Altium Limited
footprint Q-8 (DIP; 8 Leads; Row Spacing 7.62 mm; Pitch 2.54 mm)
simulation model AD711C (SUBCKT)
pins: 1 OS NULL, 2 IN- (in), 3 IN+ (in), 4 V- (power), 5 OS NULL, 6 OUT (out), 7 V+ (power), 8 NC

## AD711JN
designator U?
Precision Low Cost High-Speed BiFET Operational Amplifier; Revision 1: 10-Jul-2000: SIM Model Added.; Revision 2: 17-Jul-2002: Re-released for DXP Platform.; Package Information: Latest Revision: revA; Note: Pin 8 is not connected.; Published: 8-Jun-2000; Datasheet: Latest Revision: REV. A; Package Reference: N-8; Publisher: Altium Limited
footprint N-8 (DIP; 8 Leads; Row Spacing 7.62 mm; Pitch 2.54 mm)
simulation model AD711J (SUBCKT)
pins: 1 OS NULL, 2 IN- (in), 3 IN+ (in), 4 V- (power), 5 OS NULL, 6 OUT (out), 7 V+ (power), 8 NC

## AD711JR
designator U?
Precision Low Cost High-Speed BiFET Operational Amplifier; Revision 1: 10-Jul-2000: SIM Model Added.; Revision 2: 17-Jul-2002: Re-released for DXP Platform.; Package Information: Latest Revision: REV. B; Note: Pin 8 is not connected.; Code - JEDEC: MS-012-AA; Code - IPC: SO8; Published: 8-Jun-2000; Datasheet: Latest Revision: REV. A; Package Reference: R-8; Publisher: Altium Limited
footprint R-8 (Small Outline; 8 Leads; Body Width 3.9 mm; Pitch 1.27 mm)
simulation model AD711J (SUBCKT)
pins: 1 OS NULL, 2 IN- (in), 3 IN+ (in), 4 V- (power), 5 OS NULL, 6 OUT (out), 7 V+ (power), 8 NC

## AD711KN
designator U?
Precision Low Cost High-Speed BiFET Operational Amplifier; Revision 1: 10-Jul-2000: SIM Model Added.; Revision 2: 17-Jul-2002: Re-released for DXP Platform.; Package Information: Latest Revision: revA; Note: Pin 8 is not connected.; Published: 8-Jun-2000; Datasheet: Latest Revision: REV. A; Package Reference: N-8; Publisher: Altium Limited
footprint N-8 (DIP; 8 Leads; Row Spacing 7.62 mm; Pitch 2.54 mm)
simulation model AD711K (SUBCKT)
pins: 1 OS NULL, 2 IN- (in), 3 IN+ (in), 4 V- (power), 5 OS NULL, 6 OUT (out), 7 V+ (power), 8 NC

## AD711KR
designator U?
Precision Low Cost High-Speed BiFET Operational Amplifier; Revision 1: 10-Jul-2000: SIM Model Added.; Revision 2: 17-Jul-2002: Re-released for DXP Platform.; Package Information: Latest Revision: REV. B; Note: Pin 8 is not connected.; Code - JEDEC: MS-012-AA; Code - IPC: SO8; Published: 8-Jun-2000; Datasheet: Latest Revision: REV. A; Package Reference: R-8; Publisher: Altium Limited
footprint R-8 (Small Outline; 8 Leads; Body Width 3.9 mm; Pitch 1.27 mm)
simulation model AD711K (SUBCKT)
pins: 1 OS NULL, 2 IN- (in), 3 IN+ (in), 4 V- (power), 5 OS NULL, 6 OUT (out), 7 V+ (power), 8 NC

## AD711SH
designator U?
Precision Low Cost High-Speed BiFET Operational Amplifier; Revision 1: 10-Jul-2000: SIM Model Added.; Revision 2: 17-Jul-2002: Re-released for DXP Platform.; Package Information: Latest Revision: 1990; Note: Pin 4 connected to case; Pin 8 is not connected.; Published: 8-Jun-2000; Datasheet: Amplifier Reference Manual (1992); Package Reference: H-08A; Publisher: Altium Limited
footprint H-08A (Can; 8 Leads; Pin Circle Dia. 5.08 mm; Lead Dia. 0.53 mm (max))
simulation model AD711S (SUBCKT)
pins: 1 OS NULL, 2 IN- (in), 3 IN+ (in), 4 V- (power), 5 OS NULL, 6 OUT (out), 7 V+ (power), 8 NC

## AD711SH/883B
designator U?
Precision Low Cost High-Speed BiFET Op Amp; Revision 1: 10-Jul-2000: SIM Model Added.; Revision 2: 17-Jul-2002: Re-released for DXP Platform.; Package Information: Latest Revision: 1990; Note: Pin 4 connected to case; Pin 8 is not connected.; Published: 8-Jun-2000; Datasheet: Amplifier Reference Manual (1992); Package Reference: H-08A; Publisher: Altium Limited
footprint H-08A (Can; 8 Leads; Pin Circle Dia. 5.08 mm; Lead Dia. 0.53 mm (max))
simulation model AD711S (SUBCKT)
pins: 1 OS NULL, 2 IN- (in), 3 IN+ (in), 4 V- (power), 5 OS NULL, 6 OUT (out), 7 V+ (power), 8 NC

## AD711SQ
designator U?
Precision Low Cost High-Speed BiFET Operational Amplifier; Revision 1: 10-Jul-2000: SIM Model Added.; Revision 2: 17-Jul-2002: Re-released for DXP Platform.; Package Information: Latest Revision: 1998; Note: Pin 8 is not connected.; Published: 8-Jun-2000; Datasheet: Amplifier Reference Manual (1992); Package Reference: Q-8; Publisher: Altium Limited
footprint Q-8 (DIP; 8 Leads; Row Spacing 7.62 mm; Pitch 2.54 mm)
simulation model AD711S (SUBCKT)
pins: 1 OS NULL, 2 IN- (in), 3 IN+ (in), 4 V- (power), 5 OS NULL, 6 OUT (out), 7 V+ (power), 8 NC

## AD711SQ/883B
designator U?
Precision Low Cost High-Speed BiFET Operational Amplifier; Revision 1: 10-Jul-2000: SIM Model Added.; Revision 2: 17-Jul-2002: Re-released for DXP Platform.; Package Information: Latest Revision: 1998; Note: Pin 8 is not connected.; Published: 8-Jun-2000; Datasheet: Latest Revision: REV. A; Package Reference: Q-8; Publisher: Altium Limited
footprint Q-8 (DIP; 8 Leads; Row Spacing 7.62 mm; Pitch 2.54 mm)
simulation model AD711S (SUBCKT)
pins: 1 OS NULL, 2 IN- (in), 3 IN+ (in), 4 V- (power), 5 OS NULL, 6 OUT (out), 7 V+ (power), 8 NC

## AD711TH
designator U?
Precision Low Cost High-Speed BiFET Operational Amplifier; Revision 1: 10-Jul-2000: SIM Model Added.; Revision 2: 17-Jul-2002: Re-released for DXP Platform.; Package Information: Latest Revision: 1990; Note: Pin 4 connected to case; Pin 8 is not connected.; Published: 8-Jun-2000; Datasheet: Amplifier Reference Manual (1992); Package Reference: H-08A; Publisher: Altium Limited
footprint H-08A (Can; 8 Leads; Pin Circle Dia. 5.08 mm; Lead Dia. 0.53 mm (max))
simulation model AD711T (SUBCKT)
pins: 1 OS NULL, 2 IN- (in), 3 IN+ (in), 4 V- (power), 5 OS NULL, 6 OUT (out), 7 V+ (power), 8 NC

## AD711TH/883B
designator U?
Precision Low Cost High-Speed BiFET Op Amp; Revision 1: 10-Jul-2000: SIM Model Added.; Revision 2: 17-Jul-2002: Re-released for DXP Platform.; Package Information: Latest Revision: 1990; Note: Pin 4 connected to case; Pin 8 is not connected.; Published: 8-Jun-2000; Datasheet: Amplifier Reference Manual (1992); Package Reference: H-08A; Publisher: Altium Limited
footprint H-08A (Can; 8 Leads; Pin Circle Dia. 5.08 mm; Lead Dia. 0.53 mm (max))
simulation model AD711T (SUBCKT)
pins: 1 OS NULL, 2 IN- (in), 3 IN+ (in), 4 V- (power), 5 OS NULL, 6 OUT (out), 7 V+ (power), 8 NC

## AD711TQ
designator U?
Precision Low Cost High-Speed BiFET Operational Amplifier; Revision 1: 10-Jul-2000: SIM Model Added.; Revision 2: 17-Jul-2002: Re-released for DXP Platform.; Package Information: Latest Revision: 1998; Note: Pin 8 is not connected.; Published: 8-Jun-2000; Datasheet: Amplifier Reference Manual (1992); Package Reference: Q-8; Publisher: Altium Limited
footprint Q-8 (DIP; 8 Leads; Row Spacing 7.62 mm; Pitch 2.54 mm)
simulation model AD711T (SUBCKT)
pins: 1 OS NULL, 2 IN- (in), 3 IN+ (in), 4 V- (power), 5 OS NULL, 6 OUT (out), 7 V+ (power), 8 NC

## AD711TQ/883B
designator U?
Precision Low Cost High-Speed BiFET Operational Amplifier; Revision 1: 10-Jul-2000: SIM Model Added.; Revision 2: 17-Jul-2002: Re-released for DXP Platform.; Package Information: Latest Revision: 1998; Note: Pin 8 is not connected.; Published: 8-Jun-2000; Datasheet: Latest Revision: REV. A; Package Reference: Q-8; Publisher: Altium Limited
footprint Q-8 (DIP; 8 Leads; Row Spacing 7.62 mm; Pitch 2.54 mm)
simulation model AD711T (SUBCKT)
pins: 1 OS NULL, 2 IN- (in), 3 IN+ (in), 4 V- (power), 5 OS NULL, 6 OUT (out), 7 V+ (power), 8 NC

## AD712AH
designator U?
Dual Precision Low Cost High-Speed BiFET Operational Amplifier; Revision 1: 10-Jul-2000: SIM Model Added.; Revision 2: 17-Jul-2002: Re-released for DXP Platform.; Package Information: Latest Revision: 1993; Published: 8-Jun-2000; Datasheet: Latest Revision: REV. B 1998; Package Reference: H-08A_D; Publisher: Altium Limited
footprint H-08A_D (Can; 8 Leads; Pin Circle Dia. 5.08 mm; Lead Dia. 0.48 mm (max))
simulation model AD712A (SUBCKT)
pins on every part: 4 V- (power), 8 V+ (power)
part A pins: 1 OUT (out), 2 IN- (in), 3 IN+ (in)
part B pins: 5 IN+ (in), 6 IN- (in), 7 OUT (out)
part A text: A
part B text: B

## AD712AQ
designator U?
Dual Precision Low Cost High-Speed BiFET Operational Amplifier; Revision 1: 10-Jul-2000: SIM Model Added.; Revision 2: 17-Jul-2002: Re-released for DXP Platform.; Package Information: Latest Revision: 1998; Published: 8-Jun-2000; Datasheet: Latest Revision: REV. B 1998; Package Reference: Q-8; Publisher: Altium Limited
footprint Q-8 (DIP; 8 Leads; Row Spacing 7.62 mm; Pitch 2.54 mm)
simulation model AD712A (SUBCKT)
pins on every part: 4 V- (power), 8 V+ (power)
part A pins: 1 OUT (out), 2 IN- (in), 3 IN+ (in)
part B pins: 5 IN+ (in), 6 IN- (in), 7 OUT (out)
part A text: A
part B text: B

## AD712BH
designator U?
Dual Precision Low Cost High-Speed BiFET Operational Amplifier; Revision 1: 10-Jul-2000: SIM Model Added.; Revision 2: 17-Jul-2002: Re-released for DXP Platform.; Package Information: Latest Revision: 1993; Published: 8-Jun-2000; Datasheet: Latest Revision: REV. B 1998; Package Reference: H-08A_D; Publisher: Altium Limited
footprint H-08A_D (Can; 8 Leads; Pin Circle Dia. 5.08 mm; Lead Dia. 0.48 mm (max))
simulation model AD712B (SUBCKT)
pins on every part: 4 V- (power), 8 V+ (power)
part A pins: 1 OUT (out), 2 IN- (in), 3 IN+ (in)
part B pins: 5 IN+ (in), 6 IN- (in), 7 OUT (out)
part A text: A
part B text: B

## AD712BQ
designator U?
Dual Precision Low Cost High-Speed BiFET Operational Amplifier; Revision 1: 10-Jul-2000: SIM Model Added.; Revision 2: 17-Jul-2002: Re-released for DXP Platform.; Package Information: Latest Revision: 1998; Published: 8-Jun-2000; Datasheet: Latest Revision: REV. B 1998; Package Reference: Q-8; Publisher: Altium Limited
footprint Q-8 (DIP; 8 Leads; Row Spacing 7.62 mm; Pitch 2.54 mm)
simulation model AD712B (SUBCKT)
pins on every part: 4 V- (power), 8 V+ (power)
part A pins: 1 OUT (out), 2 IN- (in), 3 IN+ (in)
part B pins: 5 IN+ (in), 6 IN- (in), 7 OUT (out)
part A text: A
part B text: B

## AD712CH
designator U?
Dual Precision Low Cost High-Speed BiFET Operational Amplifier; Revision 1: 10-Jul-2000: SIM Model Added.; Revision 2: 17-Jul-2002: Re-released for DXP Platform.; Package Information: Latest Revision: 1993; Published: 8-Jun-2000; Datasheet: Latest Revision: REV. B 1998; Package Reference: H-08A_D; Publisher: Altium Limited
footprint H-08A_D (Can; 8 Leads; Pin Circle Dia. 5.08 mm; Lead Dia. 0.48 mm (max))
simulation model AD712C (SUBCKT)
pins on every part: 4 V- (power), 8 V+ (power)
part A pins: 1 OUT (out), 2 IN- (in), 3 IN+ (in)
part B pins: 5 IN+ (in), 6 IN- (in), 7 OUT (out)
part A text: A
part B text: B

## AD712CQ
designator U?
Dual Precision Low Cost High-Speed BiFET Operational Amplifier; Revision 1: 10-Jul-2000: SIM Model Added.; Revision 2: 17-Jul-2002: Re-released for DXP Platform.; Package Information: Latest Revision: 1998; Published: 8-Jun-2000; Datasheet: Amplifier Reference Manual (1992); Package Reference: Q-8; Publisher: Altium Limited
footprint Q-8 (DIP; 8 Leads; Row Spacing 7.62 mm; Pitch 2.54 mm)
simulation model AD712C (SUBCKT)
pins on every part: 4 V- (power), 8 V+ (power)
part A pins: 1 OUT (out), 2 IN- (in), 3 IN+ (in)
part B pins: 5 IN+ (in), 6 IN- (in), 7 OUT (out)
part A text: A
part B text: B

## AD712JN
designator U?
Dual Precision Low Cost High-Speed BiFET Operational Amplifier; Revision 1: 10-Jul-2000: SIM Model Added.; Revision 2: 17-Jul-2002: Re-released for DXP Platform.; Package Information: Latest Revision: revA; Published: 8-Jun-2000; Datasheet: Latest Revision: REV. B 1998; Package Reference: N-8; Publisher: Altium Limited
footprint N-8 (DIP; 8 Leads; Row Spacing 7.62 mm; Pitch 2.54 mm)
simulation model AD712J (SUBCKT)
pins on every part: 4 V- (power), 8 V+ (power)
part A pins: 1 OUT (out), 2 IN- (in), 3 IN+ (in)
part B pins: 5 IN+ (in), 6 IN- (in), 7 OUT (out)
part A text: A
part B text: B

## AD712JR
designator U?
Dual Precision Low Cost High-Speed BiFET Operational Amplifier; Revision 1: 10-Jul-2000: SIM Model Added.; Revision 2: 17-Jul-2002: Re-released for DXP Platform.; Code - JEDEC: MS-012-AA; Code - IPC: SO8; Published: 8-Jun-2000; Datasheet: Latest Revision: REV. B 1998; Package Reference: R-8; Publisher: Altium Limited
footprint R-8 (Small Outline; 8 Leads; Body Width 3.9 mm; Pitch 1.27 mm)
simulation model AD712J (SUBCKT)
pins on every part: 4 V- (power), 8 V+ (power)
part A pins: 1 OUT (out), 2 IN- (in), 3 IN+ (in)
part B pins: 5 IN+ (in), 6 IN- (in), 7 OUT (out)
part A text: A
part B text: B

## AD712KN
designator U?
Dual Precision Low Cost High-Speed BiFET Operational Amplifier; Revision 1: 10-Jul-2000: SIM Model Added.; Revision 2: 17-Jul-2002: Re-released for DXP Platform.; Package Information: Latest Revision: revA; Published: 8-Jun-2000; Datasheet: Latest Revision: REV. B 1998; Package Reference: N-8; Publisher: Altium Limited
footprint N-8 (DIP; 8 Leads; Row Spacing 7.62 mm; Pitch 2.54 mm)
simulation model AD712K (SUBCKT)
pins on every part: 4 V- (power), 8 V+ (power)
part A pins: 1 OUT (out), 2 IN- (in), 3 IN+ (in)
part B pins: 5 IN+ (in), 6 IN- (in), 7 OUT (out)
part A text: A
part B text: B